# EAGLE library part USBLC6 (library manualControl)
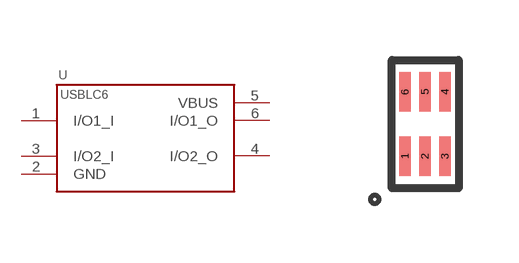
[diagram p11: symbol with the pads of SOT-666; footprint SOT-666]

Designator prefix U

## USBLC6-2P6  [SOT-666]
1  I/O1_I
2  GND
3  I/O2_I
4  I/O2_O
5  VBUS
6  I/O1_O

## Footprint SOT-666 (pad centres in mm)
smd 0.28 x 0.99: 1 -0.5,-0.805; 2 0,-0.805; 3 0.5,-0.805; 4 0.5,0.805; 5 0,0.805; 6 -0.5,0.805